# Altium schematic symbol library UserSch.SchLib: 1 symbol
Pins are listed as number, name and electrical type; pins without a type are passive.

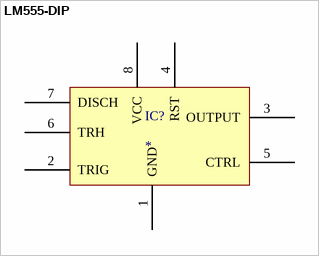
[diagram p0: symbol LM555-DIP]

## LM555-DIP
designator IC?
LM555 DIP
footprint DIP-LM555 (LM555 IC DIP)
pins: 1 GND (power) "Signal GND", 2 TRIG "Signal GND", 3 OUTPUT "Signal GND", 4 RST "Signal GND", 5 CTRL (power) "Signal GND", 6 TRH "Signal GND", 7 DISCH "Signal GND", 8 VCC (power) "Signal GND"